# Altium footprint library CAPC1608X85L22N.PcbLib: 1 footprints
Each footprint in its own frame and in the unit in brackets; x right, y up, seen from the top. Pads: shape width x height; smd on the part's side, far side on the other; paste and mask are expansions set on the pad; w line width, h text height; cw(c..) or ccw(c..) is an arc to the next point about the centre after c.
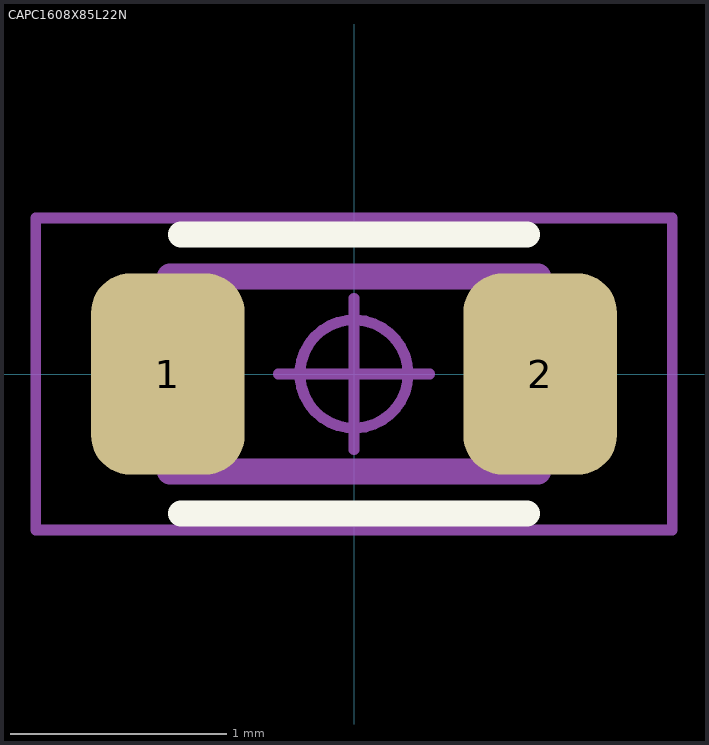
[diagram p0: the footprint, top view; thin cyan lines are the x and y axes]

## CAPC1608X85L22N [mm] "Capacitor, Chip; 1.60 mm L X 0.80 mm W X 0.85 mm H body"
height 0.85
pads (2):
  rrect51% 0.71x0.93 smd: 1(-0.86,0) 2(0.86,0)
Top Overlay:
  lines w0.12: -0.8,-0.645 0.8,-0.645 ; -0.8,0.645 0.8,0.645
Mechanical 11:
  lines w0.12: -0.85,-0.45 0.85,-0.45 0.85,0.45 -0.85,0.45 -0.85,-0.45
Mechanical 15:
  circle w0.05: c0,0 r0.25
  lines w0.05: -0.35,0 0.35,0 ; 0,-0.35 0,0.35 ; -1.47,-0.72 1.47,-0.72 1.47,0.72 -1.47,0.72 -1.47,-0.72
3D body: height 0.82, standoff 0, extent -0.8,-0.41 0.8,0.41